# Altium footprint library DC电源.PcbLib: 1 footprints
Each footprint in its own frame and in the unit in brackets; x right, y up, seen from the top. Pads: shape width x height; smd on the part's side, far side on the other; paste and mask are expansions set on the pad; w line width, h text height; cw(c..) or ccw(c..) is an arc to the next point about the centre after c.
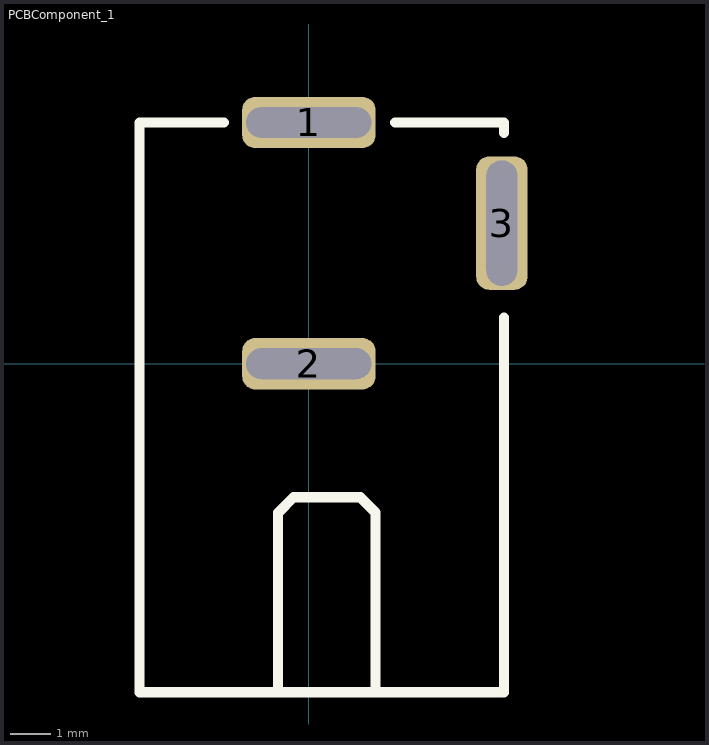
[diagram p0: the footprint, top view; thin cyan lines are the x and y axes]

## PCBComponent_1 [mil]
pads (3):
  rrect50% 129.92x50 hole 30 slot 122.05 at 0 deg: 1(0,235) 2(0,0)
  rrect50% 50x129.92 hole 30 slot 122.05 at 90 deg: 3(188,137)
Top Overlay:
  lines w10: -83,235 -165,235 -165,-320 190,-320 190,45 ; -30,-320 -30,-145 -15,-130 50,-130 65,-145 65,-320 ; 84,235 190,235 190,225